# EAGLE library part LGA22U (library GEMICOM)
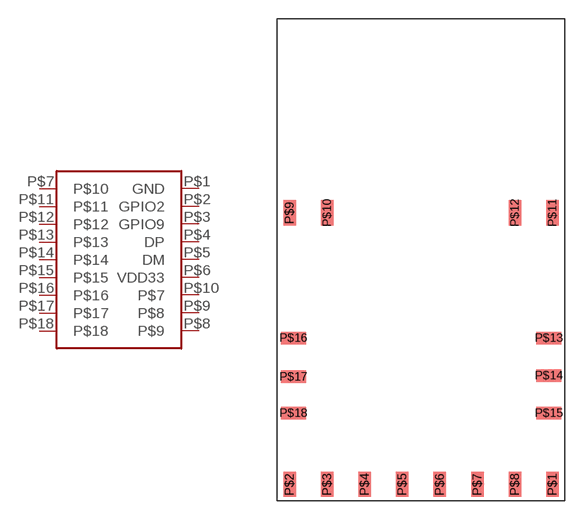
[diagram p0: symbol with the pads of LGA22U; footprint LGA22U]

Designator prefix U

## LGA22U  [LGA22U]
P$1  GND
P$2  GPIO2
P$3  GPIO9
P$4  DP
P$5  DM
P$6  VDD33
P$7  P$10
P$8  P$9
P$9  P$8
P$10  P$7
P$11  P$11
P$12  P$12
P$13  P$13
P$14  P$14
P$15  P$15
P$16  P$16
P$17  P$17
P$18  P$18

## Footprint LGA22U (pad centres in mm)
smd 1 x 2: P$1 22,1.3; P$2 1,1.3; P$3 4,1.3; P$4 7,1.3; P$5 10,1.3; P$6 13,1.3; P$7 16,1.3; P$8 19,1.3; P$9 1,23; P$10 4,23; P$11 22,23; P$12 19,23
smd 2 x 1: P$13 21.7,13; P$14 21.7,10; P$15 21.7,7; P$16 1.3,13; P$17 1.3,9.9; P$18 1.3,7